# Altium footprint library QFN-32(5.0X5.0).PcbLib: 1 footprints
Each footprint in its own frame and in the unit in brackets; x right, y up, seen from the top. Pads: shape width x height; smd on the part's side, far side on the other; paste and mask are expansions set on the pad; w line width, h text height; cw(c..) or ccw(c..) is an arc to the next point about the centre after c.
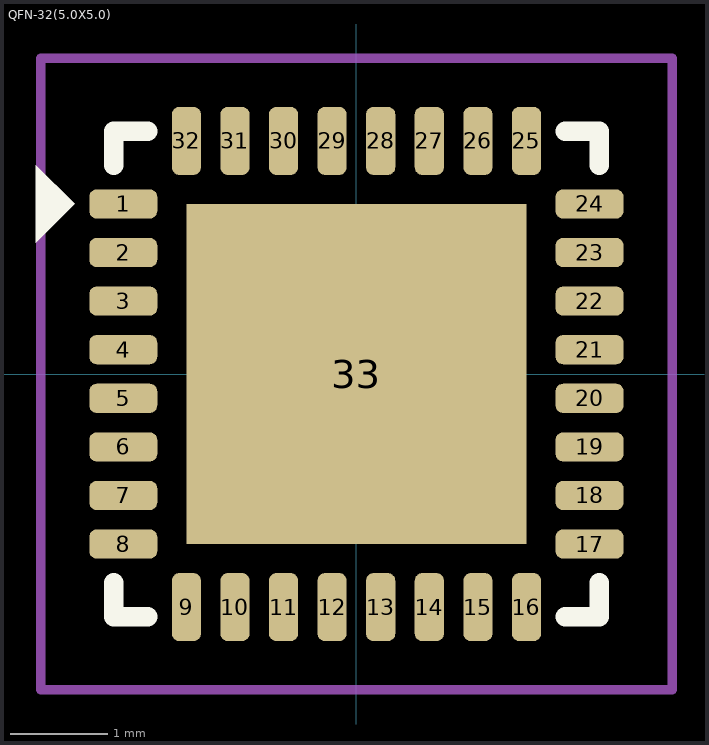
[diagram p0: the footprint, top view; thin cyan lines are the x and y axes]

## QFN-32(5.0X5.0) [mm] "STM32G4A1KEU6"
pads (33):
  rrect50% 0.7x0.3 smd: 1(-2.4,1.75) 2(-2.4,1.25) 3(-2.4,0.75) 4(-2.4,0.25) 5(-2.4,-0.25) 6(-2.4,-0.75) 7(-2.4,-1.25) 8(-2.4,-1.75) 17(2.4,-1.75) 18(2.4,-1.25) 19(2.4,-0.75) 20(2.4,-0.25) 21(2.4,0.25) 22(2.4,0.75) 23(2.4,1.25) 24(2.4,1.75)
  rrect50% 0.3x0.7 smd: 9(-1.75,-2.4) 10(-1.25,-2.4) 11(-0.75,-2.4) 12(-0.25,-2.4) 13(0.25,-2.4) 14(0.75,-2.4) 15(1.25,-2.4) 16(1.75,-2.4) 25(1.75,2.4) 26(1.25,2.4) 27(0.75,2.4) 28(0.25,2.4) 29(-0.25,2.4) 30(-0.75,2.4) 31(-1.25,2.4) 32(-1.75,2.4)
  rect 3.5x3.5 smd paste-2: 33(0,0)
Top Overlay:
  region: -3.3,1.35 -3.3,2.15 -2.9,1.75
  lines w0.2: -2.5,-2.15 -2.5,-2.5 -2.15,-2.5 ; -2.5,2.15 -2.5,2.5 -2.15,2.5 ; 2.15,-2.5 2.5,-2.5 2.5,-2.15 ; 2.15,2.5 2.5,2.5 2.5,2.15
Top Paste:
  region: 1.65,-0.1 0.1,-0.1 0.1,-1.65 1.65,-1.65
  region: -0.1,-0.1 -1.65,-0.1 -1.65,-1.65 -0.1,-1.65
  region: 1.65,1.65 0.1,1.65 0.1,0.1 1.65,0.1
  region: -0.1,1.65 -1.65,1.65 -1.65,0.1 -0.1,0.1
Top Courtyard:
  lines w0.1: -3.25,-3.25 -3.25,3.25 3.25,3.25 3.25,-3.25 -3.25,-3.25
3D body "QFPN_4A1KEU6_STM.step": height 0.61, standoff 0, extent -2.502,-2.502 2.502,2.502